# Altium schematic symbol library HC32L021_SCH_LIB.SchLib: 3 symbols
Pins are listed as number, name and electrical type; pins without a type are passive.

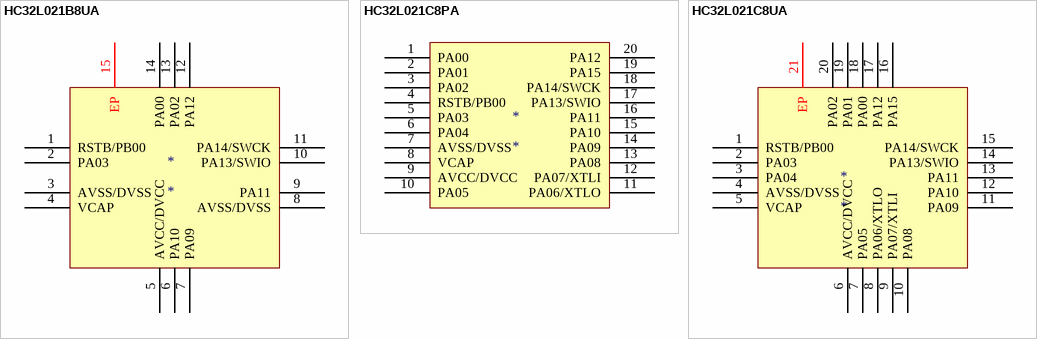
[diagram p0: symbols HC32L021B8UA to HC32L021C8UA]

## HC32L021B8UA
designator *
pins: 1 RSTB/PB00, 2 PA03, 3 AVSS/DVSS, 4 VCAP, 5 AVCC/DVCC, 6 PA10, 7 PA09, 8 AVSS/DVSS, 9 PA11, 10 PA13/SWIO, 11 PA14/SWCK, 12 PA12, 13 PA02, 14 PA00, 15 EP

## HC32L021C8PA
designator *
pins: 1 PA00, 2 PA01, 3 PA02, 4 RSTB/PB00, 5 PA03, 6 PA04, 7 AVSS/DVSS, 8 VCAP, 9 AVCC/DVCC, 10 PA05, 11 PA06/XTLO, 12 PA07/XTLI, 13 PA08, 14 PA09, 15 PA10, 16 PA11, 17 PA13/SWIO, 18 PA14/SWCK, 19 PA15, 20 PA12

## HC32L021C8UA
designator *
pins: 1 RSTB/PB00, 2 PA03, 3 PA04, 4 AVSS/DVSS, 5 VCAP, 6 AVCC/DVCC, 7 PA05, 8 PA06/XTLO, 10 PA08, 11 PA09, 12 PA10, 13 PA11, 14 PA13/SWIO, 15 PA14/SWCK, 16 PA15, 17 PA12, 18 PA00, 19 PA01, 20 PA02, 21 EP,  9 PA07/XTLI